# EAGLE library part DG408D-J (library joakim)
ANALOG MULTIPLEXER
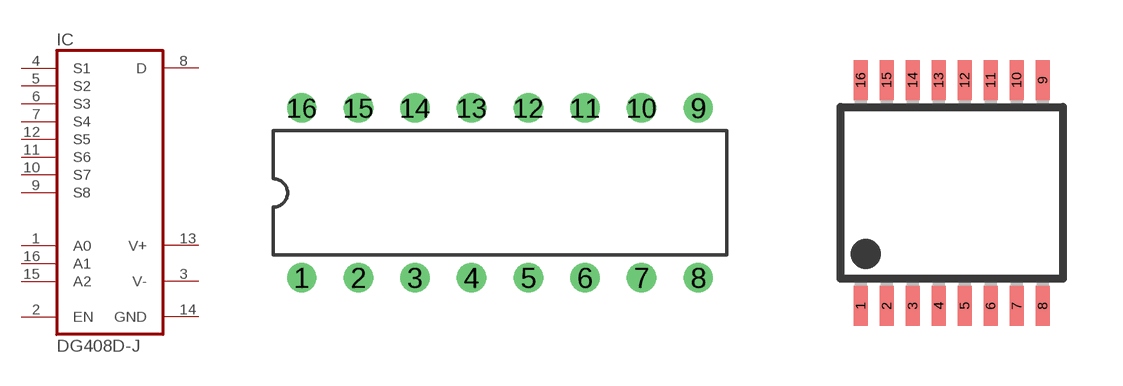
[diagram p84: symbol with the pads of DIL16J; footprints DIL16J, TSSOP16J]

Designator prefix IC

## DG408D-JD  [DIL16J]
1  A0  in
2  EN  in
3  V-  pwr
4  S1  pas
5  S2  pas
6  S3  pas
7  S4  pas
8  D  pas
9  S8  pas
10  S7  pas
11  S6  pas
12  S5  pas
13  V+  pwr
14  GND  pwr
15  A2  in
16  A1  in

## DG408D-JT  [TSSOP16J]
Pads as for DIL16J

## Footprint DIL16J (pad centres in mm)
Dual In Line 16
drill 0.813: 1 -8.89,-3.81; 2 -6.35,-3.81; 3 -3.81,-3.81; 4 -1.27,-3.81; 5 1.27,-3.81; 6 3.81,-3.81; 7 6.35,-3.81; 8 8.89,-3.81; 9 8.89,3.81; 10 6.35,3.81; 11 3.81,3.81; 12 1.27,3.81; 13 -1.27,3.81; 14 -3.81,3.81; 15 -6.35,3.81; 16 -8.89,3.81

## Footprint TSSOP16J (pad centres in mm)
16-Lead Plastic Thin Shrink Small Outline (ST) - 4.4 mm Body TSSOP Source: http://ww1.microchip.com/downloads/en/DeviceDoc/40039E.pdf
smd 0.35 x 1: 1 -2.268,-2.825; 2 -1.617,-2.825; 3 -0.968,-2.825; 4 -0.318,-2.825; 5 0.333,-2.825; 6 0.983,-2.825; 7 1.633,-2.825; 8 2.283,-2.825; 9 2.283,2.825; 10 1.633,2.825; 11 0.983,2.825; 12 0.333,2.825; 13 -0.318,2.825; 14 -0.968,2.825; 15 -1.617,2.825; 16 -2.268,2.825